# Altium footprint library 6thsense_pcb_lib.PcbLib: 1 footprints
Each footprint in its own frame and in the unit in brackets; x right, y up, seen from the top. Pads: shape width x height; smd on the part's side, far side on the other; paste and mask are expansions set on the pad; w line width, h text height; cw(c..) or ccw(c..) is an arc to the next point about the centre after c.
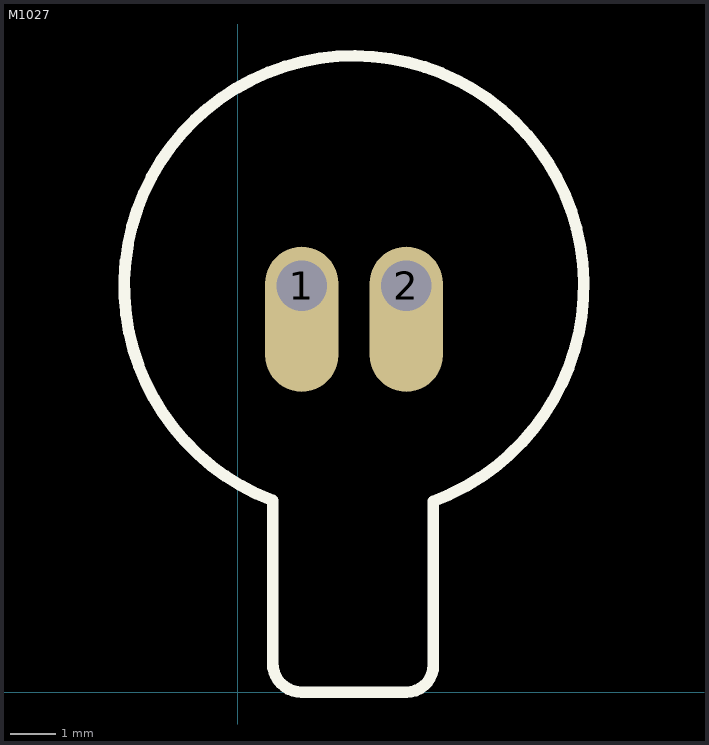
[diagram p0: the footprint, top view; thin cyan lines are the x and y axes]

## M1027 [mm]
pads (2):
  rrect100% 1.6x3.175 hole 1.1 copper offset 0,-0.737: 1(1.397,8.89) 2(3.683,8.89)
Top Overlay:
  lines w0.254: 0.762,0.635 ccw(c1.397,0.635) 1.397,0 3.683,0 ccw(c3.683,0.594) 4.277,0.594 4.277,4.176 ccw(c2.54,8.89) 0.762,4.191 0.762,0.635